# Altium schematic symbol library WE-SL.SchLib: 7 symbols
Pins are listed as number, name and electrical type; pins without a type are passive.

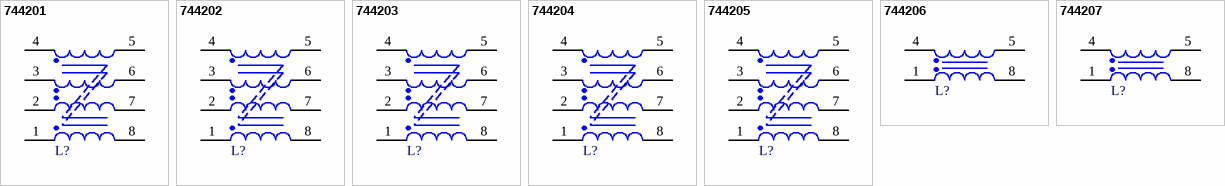
[diagram p0: symbols 744201 to 744207]

## 744201
designator L?, comment 4700uH  (value not drawn)
WE-SL SMT Common Mode Line Filter, 4700uH, 0.2A, 0.85Ohm; Manufacturer: Wurth Elektronik; Manufacturer Part Number: 744201; Impedance Max: 14000Ohm; Insulation Test Voltage: 500VAC; Leakage Inductance: 290nH; Number of Windings: 4; Rated Voltage: 80V; Winding Style: bifilar; ComponentLink1Description: Manufacturer Link; ComponentLink1URL: https://www.we-online.com/redexpert/article/744201?ad; ComponentLink2Description: Datasheet; ComponentLink2URL: https://www.we-online.com/redexpert/spec/744201?ad; Category: Common Mode Chokes; Match Code: WE-SL; Mount: Surface Mount; Operating Temperature Max: 125°C; Operating Temperature Min: -40°C; Packaging: Tape and Reel; Length: 12.4mm; Width: 10.2mm; Height: 5.4mm; DC Resistance Max: 0.85Ohm; Inductance: 4700uH; Rated Current: 0.2A
footprint WE-SL_L12.4W10.2H5.4
pins: 1, 2, 3, 4, 5, 6, 7, 8

## 744202
designator L?, comment 1000uH  (value not drawn)
WE-SL SMT Common Mode Line Filter, 1000uH, 0.35A, 0.4Ohm; Manufacturer: Wurth Elektronik; Manufacturer Part Number: 744202; Impedance Max: 5000Ohm; Insulation Test Voltage: 500VAC; Leakage Inductance: 170nH; Number of Windings: 4; Rated Voltage: 80V; Winding Style: bifilar; ComponentLink1Description: Manufacturer Link; ComponentLink1URL: https://www.we-online.com/redexpert/article/744202?ad; ComponentLink2Description: Datasheet; ComponentLink2URL: https://www.we-online.com/redexpert/spec/744202?ad; Category: Common Mode Chokes; Match Code: WE-SL; Mount: Surface Mount; Operating Temperature Max: 125°C; Operating Temperature Min: -40°C; Packaging: Tape and Reel; Length: 12.4mm; Width: 10.2mm; Height: 5.4mm; DC Resistance Max: 0.4Ohm; Inductance: 1000uH; Rated Current: 0.35A
footprint WE-SL_L12.4W10.2H5.4
pins: 1, 2, 3, 4, 5, 6, 7, 8

## 744203
designator L?, comment 500uH  (value not drawn)
WE-SL SMT Common Mode Line Filter, 500uH, 0.4A, 0.3Ohm; Manufacturer: Wurth Elektronik; Manufacturer Part Number: 744203; Impedance Max: 3000Ohm; Insulation Test Voltage: 500VAC; Leakage Inductance: 140nH; Number of Windings: 4; Rated Voltage: 80V; Winding Style: bifilar; ComponentLink1Description: Manufacturer Link; ComponentLink1URL: https://www.we-online.com/redexpert/article/744203?ad; ComponentLink2Description: Datasheet; ComponentLink2URL: https://www.we-online.com/redexpert/spec/744203?ad; Category: Common Mode Chokes; Match Code: WE-SL; Mount: Surface Mount; Operating Temperature Max: 125°C; Operating Temperature Min: -40°C; Packaging: Tape and Reel; Length: 12.4mm; Width: 10.2mm; Height: 5.4mm; DC Resistance Max: 0.3Ohm; Inductance: 500uH; Rated Current: 0.4A
footprint WE-SL_L12.4W10.2H5.4
pins: 1, 2, 3, 4, 5, 6, 7, 8

## 744204
designator L?, comment 250uH  (value not drawn)
WE-SL SMT Common Mode Line Filter, 250uH, 0.6A, 0.12Ohm; Manufacturer: Wurth Elektronik; Manufacturer Part Number: 744204; Impedance Max: 1400Ohm; Insulation Test Voltage: 500VAC; Leakage Inductance: 110nH; Number of Windings: 4; Rated Voltage: 80V; Winding Style: bifilar; ComponentLink1Description: Manufacturer Link; ComponentLink1URL: https://www.we-online.com/redexpert/article/744204?ad; ComponentLink2Description: Datasheet; ComponentLink2URL: https://www.we-online.com/redexpert/spec/744204?ad; Category: Common Mode Chokes; Match Code: WE-SL; Mount: Surface Mount; Operating Temperature Max: 125°C; Operating Temperature Min: -40°C; Packaging: Tape and Reel; Length: 12.4mm; Width: 10.2mm; Height: 5.4mm; DC Resistance Max: 0.12Ohm; Inductance: 250uH; Rated Current: 0.6A
footprint WE-SL_L12.4W10.2H5.4
pins: 1, 2, 3, 4, 5, 6, 7, 8

## 744205
designator L?, comment 100uH  (value not drawn)
WE-SL SMT Common Mode Line Filter, 100uH, 0.7A, 0.1Ohm; Manufacturer: Wurth Elektronik; Manufacturer Part Number: 744205; Impedance Max: 900Ohm; Insulation Test Voltage: 500VAC; Leakage Inductance: 92nH; Number of Windings: 4; Rated Voltage: 80V; Winding Style: bifilar; ComponentLink1Description: Manufacturer Link; ComponentLink1URL: https://www.we-online.com/redexpert/article/744205?ad; ComponentLink2Description: Datasheet; ComponentLink2URL: https://www.we-online.com/redexpert/spec/744205?ad; Category: Common Mode Chokes; Match Code: WE-SL; Mount: Surface Mount; Operating Temperature Max: 125°C; Operating Temperature Min: -40°C; Packaging: Tape and Reel; Length: 12.4mm; Width: 10.2mm; Height: 5.4mm; DC Resistance Max: 0.1Ohm; Inductance: 100uH; Rated Current: 0.7A
footprint WE-SL_L12.4W10.2H5.4
pins: 1, 2, 3, 4, 5, 6, 7, 8

## 744206
designator L?, comment 60uH  (value not drawn)
WE-SL SMT Common Mode Line Filter, 60uH, 2A, 0.065Ohm; Manufacturer: Wurth Elektronik; Manufacturer Part Number: 744206; Impedance Max: 1600Ohm; Insulation Test Voltage: 500VAC; Leakage Inductance: 86nH; Number of Windings: 2; Rated Voltage: 80V; Winding Style: bifilar; ComponentLink1Description: Manufacturer Link; ComponentLink1URL: https://www.we-online.com/redexpert/article/744206?ad; ComponentLink2Description: Datasheet; ComponentLink2URL: https://www.we-online.com/redexpert/spec/744206?ad; Category: Common Mode Chokes; Match Code: WE-SL; Mount: Surface Mount; Operating Temperature Max: 125°C; Operating Temperature Min: -40°C; Packaging: Tape and Reel; Length: 12.4mm; Width: 10.2mm; Height: 5.4mm; DC Resistance Max: 0.065Ohm; Inductance: 60uH; Rated Current: 2A
footprint WE-SL_L12.4W10.2H5.4
pins: 1, 4, 5, 8

## 744207
designator L?, comment 35uH  (value not drawn)
WE-SL SMT Common Mode Line Filter, 35uH, 2.7A, 0.035Ohm; Manufacturer: Wurth Elektronik; Manufacturer Part Number: 744207; Impedance Max: 1100Ohm; Insulation Test Voltage: 500VAC; Leakage Inductance: 63nH; Number of Windings: 2; Rated Voltage: 80V; Winding Style: bifilar; ComponentLink1Description: Manufacturer Link; ComponentLink1URL: https://www.we-online.com/redexpert/article/744207?ad; ComponentLink2Description: Datasheet; ComponentLink2URL: https://www.we-online.com/redexpert/spec/744207?ad; Category: Common Mode Chokes; Match Code: WE-SL; Mount: Surface Mount; Operating Temperature Max: 125°C; Operating Temperature Min: -40°C; Packaging: Tape and Reel; Length: 12.4mm; Width: 10.2mm; Height: 5.4mm; DC Resistance Max: 0.035Ohm; Inductance: 35uH; Rated Current: 2.7A
footprint WE-SL_L12.4W10.2H5.4
pins: 1, 4, 5, 8